# EAGLE library part CONN_03X2 (library J_LINK_6_PIN)
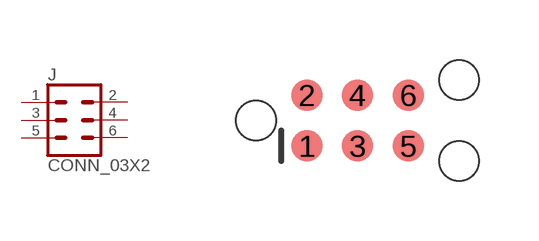
[diagram p0: symbol with the pads of 2X3_J_LINK_6_PIN; footprint 2X3_J_LINK_6_PIN]

Designator prefix J

## CONN_03X2  [2X3_J_LINK_6_PIN]
1  1  pas
2  2  pas
3  3  pas
4  4  pas
5  5  pas
6  6  pas

## Footprint 2X3_J_LINK_6_PIN (pad centres in mm)
smd 0.787 x 0.787: 1 -1.27,-0.635; 2 -1.27,0.635; 3 0,-0.635; 4 0,0.635; 5 1.27,-0.635; 6 1.27,0.635
hole 0.991 at -2.54,0
hole 0.991 at 2.54,-1.016
hole 0.991 at 2.54,1.016